# Altium footprint library MountingHole.PcbLib: 167 footprints (part 11 of 11)
Each footprint in its own frame and in the unit in brackets; x right, y up, seen from the top. Pads: shape width x height; smd on the part's side, far side on the other; paste and mask are expansions set on the pad; w line width, h text height; cw(c..) or ccw(c..) is an arc to the next point about the centre after c.
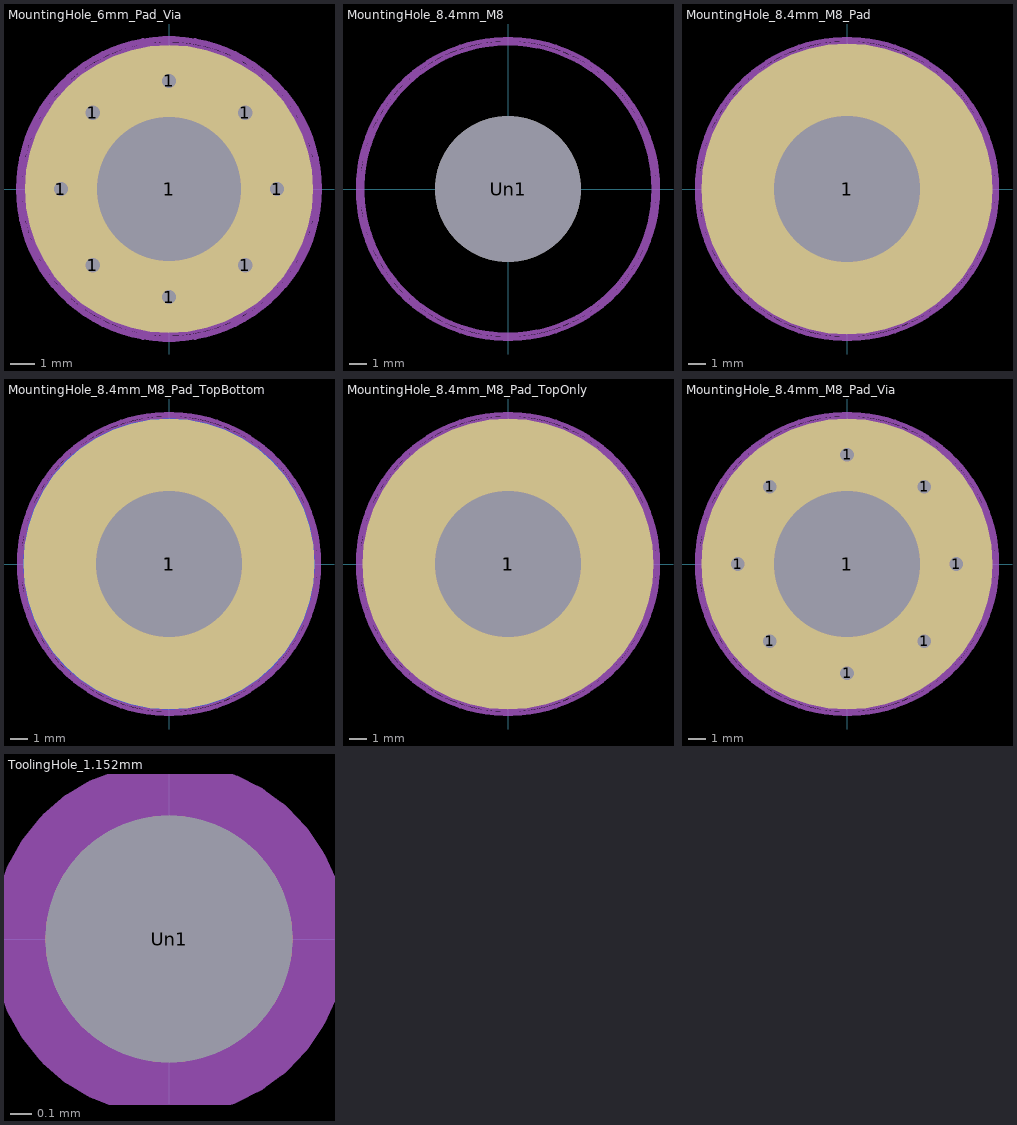
[diagram p10: the footprints below, top view; thin cyan lines are the x and y axes]

## MountingHole_6mm_Pad_Via [mm]
pads (9):
  round 0.9 hole 0.6: 1(-4.5,0) 1(-3.182,-3.182) 1(-3.182,3.182) 1(0,-4.5) 1(0,4.5) 1(3.182,-3.182) 1(3.182,3.182) 1(4.5,0)
  round 12 hole 6: 1(0,0)
Top Assembly:
  text "'.Designator'" at -4.047,-0.84 h1
Top Courtyard:
  circle w0.254: c0,0 r6.25
Top Designator:
  text ".Designator" at -7.618,-0.508 h1.52
Cmts.User:
  circle w0.254: c0,0 r6

## MountingHole_8.4mm_M8 [mm]
pads (1):
  round 8.4 hole 8.4: Un1(0,0)
Top Assembly:
  text "'.Designator'" at -4.047,-0.84 h1
Top Courtyard:
  circle w0.254: c0,0 r8.65
Top Designator:
  text ".Designator" at -7.618,-0.508 h1.52
Cmts.User:
  circle w0.254: c0,0 r8.4

## MountingHole_8.4mm_M8_Pad [mm]
pads (1):
  round 16.8 hole 8.4: 1(0,0)
Top Assembly:
  text "'.Designator'" at -4.047,-0.84 h1
Top Courtyard:
  circle w0.254: c0,0 r8.65
Top Designator:
  text ".Designator" at -7.618,-0.508 h1.52
Cmts.User:
  circle w0.254: c0,0 r8.4

## MountingHole_8.4mm_M8_Pad_TopBottom [mm]
pads (3):
  round 8.8 hole 8.4: 1(0,0)
  round 16.8 smd: 1(0,0)
  round 16.8 smd far side: 1(0,0)
Top Assembly:
  text "'.Designator'" at -4.047,-0.84 h1
Top Courtyard:
  circle w0.254: c0,0 r8.65
Top Designator:
  text ".Designator" at -7.618,-0.508 h1.52
Cmts.User:
  circle w0.254: c0,0 r8.4

## MountingHole_8.4mm_M8_Pad_TopOnly [mm]
pads (2):
  round 8.8 hole 8.4: 1(0,0)
  round 16.8 smd: 1(0,0)
Top Component Center:
  lines w0.127: -0.127,0 0.127,0 ; 0,-0.127 0,0.127
Top Assembly:
  text "'.Designator'" at -4.047,-0.84 h1
Top Courtyard:
  circle w0.254: c0,0 r8.65
Top Designator:
  text ".Designator" at -7.618,-0.508 h1.52
Cmts.User:
  circle w0.254: c0,0 r8.4

## MountingHole_8.4mm_M8_Pad_Via [mm]
pads (9):
  round 1.1 hole 0.8: 1(-6.3,0) 1(-4.455,-4.455) 1(-4.455,4.455) 1(0,-6.3) 1(0,6.3) 1(4.455,-4.455) 1(4.455,4.455) 1(6.3,0)
  round 16.8 hole 8.4: 1(0,0)
Top Assembly:
  text "'.Designator'" at -4.047,-0.84 h1
Top Courtyard:
  circle w0.254: c0,0 r8.65
Top Designator:
  text ".Designator" at -7.618,-0.508 h1.52
Cmts.User:
  circle w0.254: c0,0 r8.4

## ToolingHole_1.152mm [mm]
pads (1):
  round 1.152 hole 1.152: Un1(0,0)
Top Assembly:
  text "'.Designator'" at -4.047,-0.84 h1
Top Courtyard:
  circle w0.254: c0,0 r0.7
Top Designator:
  text ".Designator" at -7.768,-0.756 h1.52